# Altium footprint library BAL-NRF02D3.PcbLib: 1 footprints
Each footprint in its own frame and in the unit in brackets; x right, y up, seen from the top. Pads: shape width x height; smd on the part's side, far side on the other; paste and mask are expansions set on the pad; w line width, h text height; cw(c..) or ccw(c..) is an arc to the next point about the centre after c.
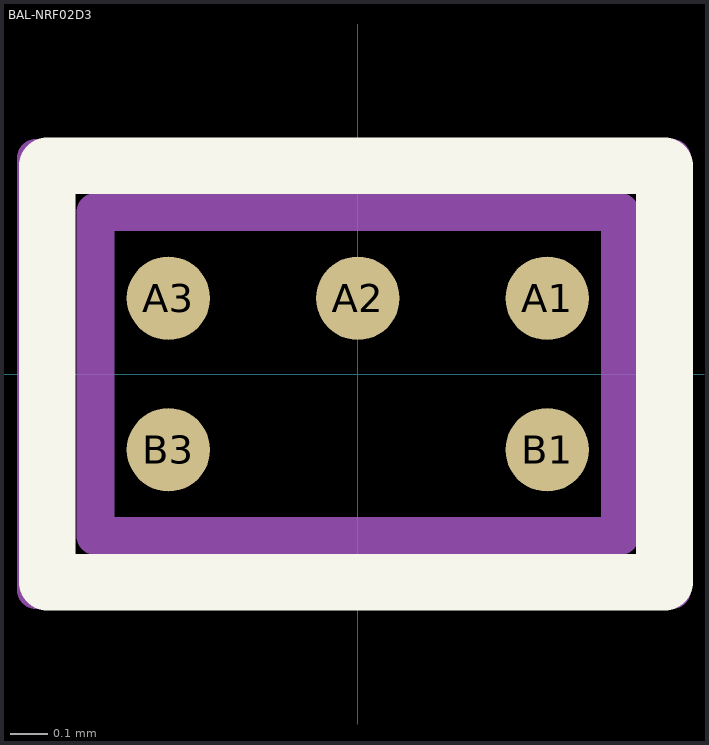
[diagram p0: the footprint, top view; thin cyan lines are the x and y axes]

## BAL-NRF02D3 [mm]
pads (5):
  round 0.22 smd: A1(0.5,0.2) A2(0,0.2) A3(-0.5,0.2) B1(0.5,-0.2) B3(-0.5,-0.2)
Top Overlay:
  lines w0.15: -0.82,-0.55 -0.82,0.55 0.81,0.55 0.81,-0.55 -0.82,-0.55
Mechanical 13:
  lines w0.1: -0.693,-0.427 -0.693,0.427 0.693,0.427 0.693,-0.427 -0.693,-0.427
Mechanical 15:
  lines w0.1: -0.85,-0.57 -0.85,0.57 0.83,0.57 0.83,-0.57 -0.85,-0.57
3D body: height 0.65, standoff -0.01, extent -0.69,-0.447 0.69,0.408